# Altium integrated library Infineon_Microcontroller.IntLib: 721 symbols (part 63 of 66)
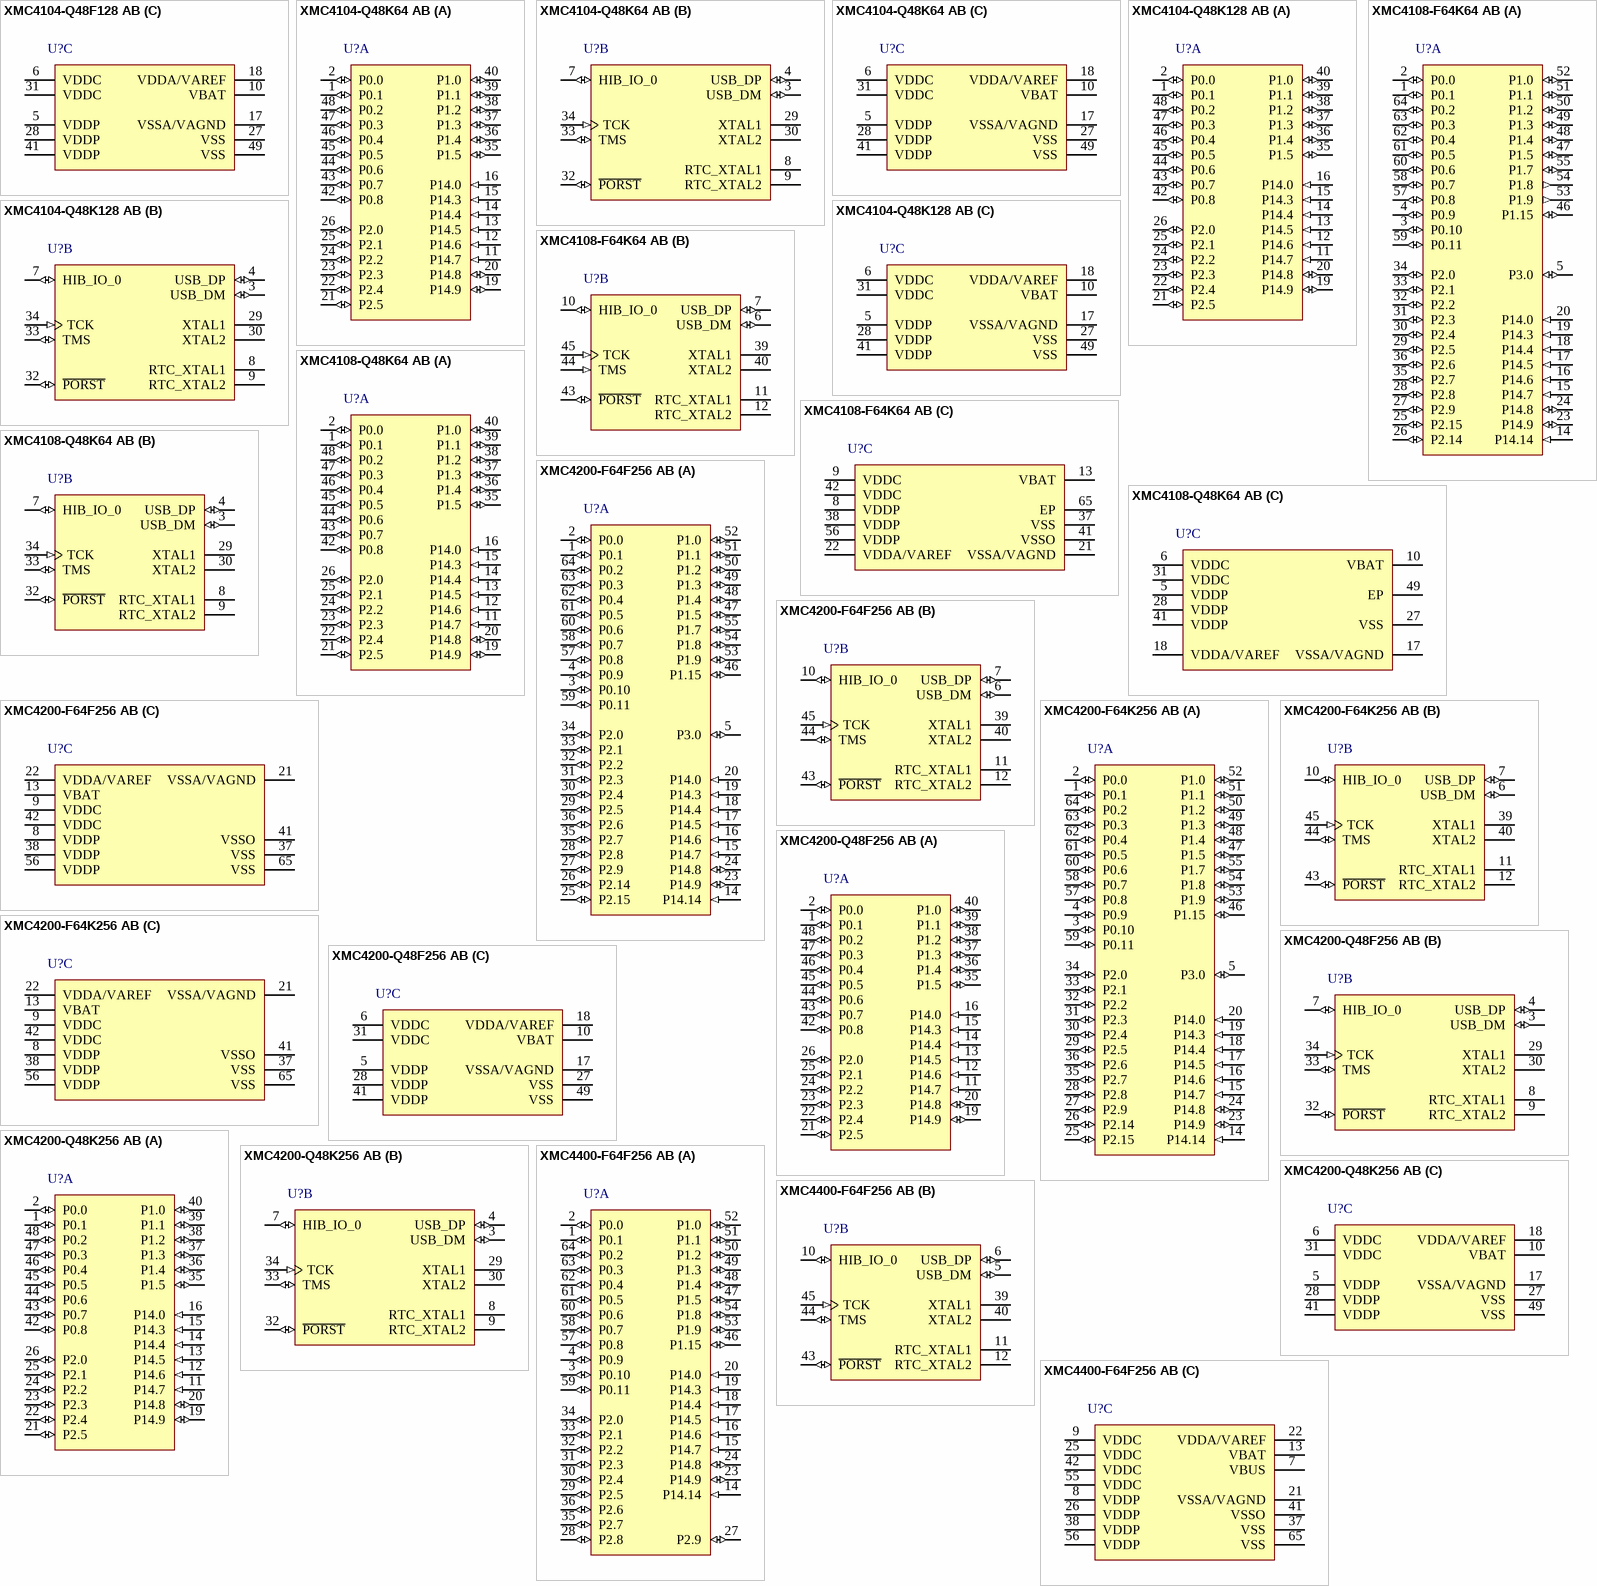
[diagram p180: symbols XMC4104-Q48F128 AB to XMC4400-F64F256 AB]

## XMC4200-F64K256 AB
designator U?
80 MHz XMC4200 MCU with 256 KByte Program Memory, 40 KByte SRAM, 3.3 V, -40 to 125 degC, PG-LQFP-64, Green; Manufacturer: Infineon; PartNumber: XMC4200-F64K256 AB; A / D input lines (incl. FADC): 9; Digital I/O Lines: 35; Green: TRUE; Type of Memory: Flash; Type of Serial I/O Interfaces: 4xSPI, Dual SPI, Quad SPI, UART, LIN, IIC, IIS; DatasheetVersion: Rev. 0.6; PackageVersion: Rev. 13, 11/2012; PackageReference: PG-LQFP-64-19; PackageDescription: 64-Pin Plastic (Green) Low Profile Quad Flat Package, 10 x 10 mm Body, 0.5 mm Pitch; Supplier 1: Newark; Supplier Part Number 1: 52X6570; Supplier 2: Farnell; Supplier Part Number 2: 2418736; Group: XMC4200; Halogen-free: TRUE; Program Memory: 256 KByte; RoHS: TRUE; SRAM (incl. Cache): 40 KByte; Mounting Technology: Surface Mount; ComponentLink1Description: Manufacturer URL; ComponentLink1URL: http://www.infineon.com/; ComponentLink2Description: Datasheet; ComponentLink2URL: http://www.infineon.com/dgdl/xmc4100_xmc4200_ds_v0.6_2012_11.pdf?folderId=db3a30433580b3710135a47f3eb76c98&fileId=db3a30433afc7e3e013b3cf9b2816573&location=en.Products.Microcontrollers.32-bit_Industrial_Microcontrollers_based_on_ARM__Cortex_-M.32-bit_XMC4000_Industrial_Microcontrollers_ARM__Cortex_-M4.DATASHEET.xmc4100_xmc4200_ds_v0.6_2012_11.pdf; ComponentLink3Description: Package Specification; ComponentLink3URL: http://www.infineon.com/dgdl/xmc4100_xmc4200_ds_v0.6_2012_11.pdf?folderId=db3a30433580b3710135a47f3eb76c98&fileId=db3a30433afc7e3e013b3cf9b2816573&location=en.Products.Microcontrollers.32-bit_Industrial_Microcontrollers_based_on_ARM__Cortex_-M.32-bit_XMC4000_Industrial_Microcontrollers_ARM__Cortex_-M4.DATASHEET.xmc4100_xmc4200_ds_v0.6_2012_11.pdf
footprint INF-PG-LQFP-64-19-5800X5800TP_N (QFP, 64-Leads, Body 10x10mm, Pitch 0.5mm, Thermal Pad 5.8x5.8mm, IPC Medium Density)
footprint INF-PG-LQFP-64-19-5800X5800TP_L (QFP, 64-Leads, Body 10x10mm, Pitch 0.5mm, Thermal Pad 5.8x5.8mm, IPC High Density)
footprint INF-PG-LQFP-64-19-5800X5800TP_M (QFP, 64-Leads, Body 10x10mm, Pitch 0.5mm, Thermal Pad 5.8x5.8mm, IPC Low Density)
part A pins: 1 P0.1 (io), 2 P0.0 (io), 3 P0.10 (io), 4 P0.9 (io), 5 P3.0 (io), 14 P14.14 (in), 15 P14.7 (in), 16 P14.6 (in), 17 P14.5 (in), 18 P14.4 (in), 19 P14.3 (in), 20 P14.0 (in), 23 P14.9 (io), 24 P14.8 (io), 25 P2.15 (io), 26 P2.14 (io), 27 P2.9 (io), 28 P2.8 (io), 29 P2.5 (io), 30 P2.4 (io), 31 P2.3 (io), 32 P2.2 (io), 33 P2.1 (io), 34 P2.0 (io), 35 P2.7 (io), 36 P2.6 (io), 46 P1.15 (io), 47 P1.5 (io), 48 P1.4 (io), 49 P1.3 (io), 50 P1.2 (io), 51 P1.1 (io), 52 P1.0 (io), 53 P1.9 (io), 54 P1.8 (io), 55 P1.7 (io), 57 P0.8 (io), 58 P0.7 (io), 59 P0.11 (io), 60 P0.6 (io), 61 P0.5 (io), 62 P0.4 (io), 63 P0.3 (io), 64 P0.2 (io)
part B pins: 6 USB_DM (io), 7 USB_DP (io), 10 HIB_IO_0 (io), 11 RTC_XTAL1, 12 RTC_XTAL2, 39 XTAL1, 40 XTAL2, 43 ~{PORST} (io) "Strong pull-down controlled by EVR. Weak pull-up active while strong pull-down is not active.", 44 TMS (io), 45 TCK (in)
part C pins: 8 VDDP (power), 9 VDDC (power), 13 VBAT (power) "When VDDP is supplied VBAT has to be supplied as well.", 21 VSSA/VAGND (power) "Shared analog supply and reference ground pin.", 22 VDDA/VAREF (power) "Shared analog supply and reference voltage pin.", 37 VSS (power), 38 VDDP (power), 41 VSSO (power), 42 VDDC (power), 56 VDDP (power), 65 VSS (power) "Exposed Die Pad. The exposed die pad is connected internally to VSS. For proper operation, it is mandatory to connect the exposed pad to the board ground. For thermal aspects, please refer to the Data Sheet. Board layout (See Datasheet)"

## XMC4200-Q48F256 AB
designator U?
80 MHz XMC4200 MCU with 256 KByte Program Memory, 40 KByte SRAM, 3.3 V, -40 to 85 degC, PG-VQFN-48, Green; Manufacturer: Infineon; PartNumber: XMC4200-Q48F256 AB; A / D input lines (incl. FADC): 8; Digital I/O Lines: 21; Green: TRUE; Type of Memory: Flash; Type of Serial I/O Interfaces: 4xSPI, Dual SPI, Quad SPI, UART, LIN, IIC, IIS; DatasheetVersion: Rev. 0.6; PackageVersion: Nov-12; PackageReference: PG-VQFN-48-53; PackageDescription: 48-Pin Plastic (Green) Very Thin Profile Quad Flat Non Leaded Package, 7 x 7 mm Body, 0.5 mm Pitch; Group: XMC4200; Halogen-free: TRUE; Program Memory: 256 KByte; RoHS: TRUE; SRAM (incl. Cache): 40 KByte; Mounting Technology: Surface Mount; ComponentLink1Description: Manufacturer URL; ComponentLink1URL: http://www.infineon.com/; ComponentLink2Description: Datasheet; ComponentLink2URL: http://www.infineon.com/dgdl/xmc4100_xmc4200_ds_v0.6_2012_11.pdf?folderId=db3a30433580b3710135a47f3eb76c98&fileId=db3a30433afc7e3e013b3cf9b2816573&location=en.Products.Microcontrollers.32-bit_Industrial_Microcontrollers_based_on_ARM__Cortex_-M.32-bit_XMC4000_Industrial_Microcontrollers_ARM__Cortex_-M4.DATASHEET.xmc4100_xmc4200_ds_v0.6_2012_11.pdf; ComponentLink3Description: Package Specification; ComponentLink3URL: http://www.infineon.com/dgdl/PG-VQFN-48-15%2C-19%2C-20%2C-22%2C-24%2C-48%2C-51%2C-52%2C-53%2C-54%2C-55%2C-56%2C-57-Package_Overview.pdf?folderId=db3a304319c6f18c0119e80a8f2559bf&fileId=db3a304319c6f18c011a0b8b18c33200
footprint INF-PG-VQFN-48-53-5200X5200TP_N (QFN, 48-Leads, Body 7x7mm, Pitch 0.5mm, Thermal Pad 5.2x5.2mm, IPC Medium Density)
footprint INF-PG-VQFN-48-53-5200X5200TP_L (QFN, 48-Leads, Body 7x7mm, Pitch 0.5mm, Thermal Pad 5.2x5.2mm, IPC High Density)
footprint INF-PG-VQFN-48-53-5200X5200TP_M (QFN, 48-Leads, Body 7x7mm, Pitch 0.5mm, Thermal Pad 5.2x5.2mm, IPC Low Density)
part A pins: 1 P0.1 (io), 2 P0.0 (io), 11 P14.7 (in), 12 P14.6 (in), 13 P14.5 (in), 14 P14.4 (in), 15 P14.3 (in), 16 P14.0 (in), 19 P14.9 (io), 20 P14.8 (io), 21 P2.5 (io), 22 P2.4 (io), 23 P2.3 (io), 24 P2.2 (io), 25 P2.1 (io), 26 P2.0 (io), 35 P1.5 (io), 36 P1.4 (io), 37 P1.3 (io), 38 P1.2 (io), 39 P1.1 (io), 40 P1.0 (io), 42 P0.8 (io), 43 P0.7 (io), 44 P0.6 (io), 45 P0.5 (io), 46 P0.4 (io), 47 P0.3 (io), 48 P0.2 (io)
part B pins: 3 USB_DM (io), 4 USB_DP (io), 7 HIB_IO_0 (io), 8 RTC_XTAL1, 9 RTC_XTAL2, 29 XTAL1, 30 XTAL2, 32 ~{PORST} (io) "Strong pull-down controlled by EVR. Weak pull-up active while strong pull-down is not active.", 33 TMS (io), 34 TCK (in)
part C pins: 5 VDDP (power), 6 VDDC (power), 10 VBAT (power) "When VDDP is supplied VBAT has to be supplied as well.", 17 VSSA/VAGND (power) "Shared analog supply and reference ground pin.", 18 VDDA/VAREF (power) "Shared analog supply and reference voltage pin.", 27 VSS (power), 28 VDDP (power), 31 VDDC (power), 41 VDDP (power), 49 VSS (power) "Exposed Die Pad. The exposed die pad is connected internally to VSS. For proper operation, it is mandatory to connect the exposed pad to the board ground. For thermal aspects, please refer to the Data Sheet. Board layout (See Datasheet)"

## XMC4200-Q48K256 AB
designator U?
80 MHz XMC4200 MCU with 256 KByte Program Memory, 40 KByte SRAM, 3.3 V, -40 to 125 degC, PG-VQFN-48, Green; Manufacturer: Infineon; PartNumber: XMC4200-Q48K256 AB; A / D input lines (incl. FADC): 8; Digital I/O Lines: 21; Green: TRUE; Type of Memory: Flash; Type of Serial I/O Interfaces: 4xSPI, Dual SPI, Quad SPI, UART, LIN, IIC, IIS; DatasheetVersion: Rev. 0.6; PackageVersion: Nov-12; PackageReference: PG-VQFN-48-53; PackageDescription: 48-Pin Plastic (Green) Very Thin Profile Quad Flat Non Leaded Package, 7 x 7 mm Body, 0.5 mm Pitch; Supplier 1: Farnell; Supplier Part Number 1: 2418732; Group: XMC4200; Halogen-free: TRUE; Program Memory: 256 KByte; RoHS: TRUE; SRAM (incl. Cache): 40 KByte; Mounting Technology: Surface Mount; ComponentLink1Description: Manufacturer URL; ComponentLink1URL: http://www.infineon.com/; ComponentLink2Description: Datasheet; ComponentLink2URL: http://www.infineon.com/dgdl/xmc4100_xmc4200_ds_v0.6_2012_11.pdf?folderId=db3a30433580b3710135a47f3eb76c98&fileId=db3a30433afc7e3e013b3cf9b2816573&location=en.Products.Microcontrollers.32-bit_Industrial_Microcontrollers_based_on_ARM__Cortex_-M.32-bit_XMC4000_Industrial_Microcontrollers_ARM__Cortex_-M4.DATASHEET.xmc4100_xmc4200_ds_v0.6_2012_11.pdf; ComponentLink3Description: Package Specification; ComponentLink3URL: http://www.infineon.com/dgdl/PG-VQFN-48-15%2C-19%2C-20%2C-22%2C-24%2C-48%2C-51%2C-52%2C-53%2C-54%2C-55%2C-56%2C-57-Package_Overview.pdf?folderId=db3a304319c6f18c0119e80a8f2559bf&fileId=db3a304319c6f18c011a0b8b18c33200
footprint INF-PG-VQFN-48-53-5200X5200TP_N (QFN, 48-Leads, Body 7x7mm, Pitch 0.5mm, Thermal Pad 5.2x5.2mm, IPC Medium Density)
footprint INF-PG-VQFN-48-53-5200X5200TP_L (QFN, 48-Leads, Body 7x7mm, Pitch 0.5mm, Thermal Pad 5.2x5.2mm, IPC High Density)
footprint INF-PG-VQFN-48-53-5200X5200TP_M (QFN, 48-Leads, Body 7x7mm, Pitch 0.5mm, Thermal Pad 5.2x5.2mm, IPC Low Density)
part A pins: 1 P0.1 (io), 2 P0.0 (io), 11 P14.7 (in), 12 P14.6 (in), 13 P14.5 (in), 14 P14.4 (in), 15 P14.3 (in), 16 P14.0 (in), 19 P14.9 (io), 20 P14.8 (io), 21 P2.5 (io), 22 P2.4 (io), 23 P2.3 (io), 24 P2.2 (io), 25 P2.1 (io), 26 P2.0 (io), 35 P1.5 (io), 36 P1.4 (io), 37 P1.3 (io), 38 P1.2 (io), 39 P1.1 (io), 40 P1.0 (io), 42 P0.8 (io), 43 P0.7 (io), 44 P0.6 (io), 45 P0.5 (io), 46 P0.4 (io), 47 P0.3 (io), 48 P0.2 (io)
part B pins: 3 USB_DM (io), 4 USB_DP (io), 7 HIB_IO_0 (io), 8 RTC_XTAL1, 9 RTC_XTAL2, 29 XTAL1, 30 XTAL2, 32 ~{PORST} (io) "Strong pull-down controlled by EVR. Weak pull-up active while strong pull-down is not active.", 33 TMS (io), 34 TCK (in)
part C pins: 5 VDDP (power), 6 VDDC (power), 10 VBAT (power) "When VDDP is supplied VBAT has to be supplied as well.", 17 VSSA/VAGND (power) "Shared analog supply and reference ground pin.", 18 VDDA/VAREF (power) "Shared analog supply and reference voltage pin.", 27 VSS (power), 28 VDDP (power), 31 VDDC (power), 41 VDDP (power), 49 VSS (power) "Exposed Die Pad. The exposed die pad is connected internally to VSS. For proper operation, it is mandatory to connect the exposed pad to the board ground. For thermal aspects, please refer to the Data Sheet. Board layout (See Datasheet)"

## XMC4400-F64F256 AB
designator U?
120 MHz XMC4400 MCU with 256 KByte Program Memory, 80 KByte SRAM, 3.3 V, -40 to 85 degC, PG-LQFP-64, Green; Manufacturer: Infineon; PartNumber: XMC4400-F64F256 AB; A / D input lines (incl. FADC): 9; Digital I/O Lines: 31; Green: TRUE; Type of Memory: Flash; Type of Serial I/O Interfaces: 4xSPI, Dual SPI, Quad SPI, UART, LIN, IIC, IIS; DatasheetVersion: Rev. 0.6; PackageVersion: Rev. 13, 11/2012; PackageReference: PG-LQFP-64-19; PackageDescription: 64-Pin Plastic (Green) Low Profile Quad Flat Package, 10 x 10 mm Body, 0.5 mm Pitch; Group: XMC4400; Halogen-free: TRUE; Program Memory: 256 KByte; RoHS: TRUE; SRAM (incl. Cache): 80 KByte; Mounting Technology: Surface Mount; ComponentLink1Description: Manufacturer URL; ComponentLink1URL: http://www.infineon.com/; ComponentLink2Description: Datasheet; ComponentLink2URL: http://www.infineon.com/dgdl/xmc4400_ds_v0.6_2012_11_.pdf?folderId=db3a30433580b3710135a47f3eb76c98&fileId=db3a30433afc7e3e013b3cfb455565a3&location=en.Products.Microcontrollers.32-bit_Industrial_Microcontrollers_based_on_ARM__Cortex_-M.32-bit_XMC4000_Industrial_Microcontrollers_ARM__Cortex_-M4.DATASHEET.xmc4400_ds_v0.6_2012_11_.pdf; ComponentLink3Description: Package Specification; ComponentLink3URL: http://www.infineon.com/dgdl/xmc4100_xmc4200_ds_v0.6_2012_11.pdf?folderId=db3a30433580b3710135a47f3eb76c98&fileId=db3a30433afc7e3e013b3cf9b2816573&location=en.Products.Microcontrollers.32-bit_Industrial_Microcontrollers_based_on_ARM__Cortex_-M.32-bit_XMC4000_Industrial_Microcontrollers_ARM__Cortex_-M4.DATASHEET.xmc4100_xmc4200_ds_v0.6_2012_11.pdf
footprint INF-PG-LQFP-64-19-5800X5800TP_N (QFP, 64-Leads, Body 10x10mm, Pitch 0.5mm, Thermal Pad 5.8x5.8mm, IPC Medium Density)
footprint INF-PG-LQFP-64-19-5800X5800TP_L (QFP, 64-Leads, Body 10x10mm, Pitch 0.5mm, Thermal Pad 5.8x5.8mm, IPC High Density)
footprint INF-PG-LQFP-64-19-5800X5800TP_M (QFP, 64-Leads, Body 10x10mm, Pitch 0.5mm, Thermal Pad 5.8x5.8mm, IPC Low Density)
part A pins: 1 P0.1 (io), 2 P0.0 (io), 3 P0.10 (io), 4 P0.9 (io), 14 P14.14 (in), 15 P14.7 (in), 16 P14.6 (in), 17 P14.5 (in), 18 P14.4 (in), 19 P14.3 (in), 20 P14.0 (in), 23 P14.9 (io), 24 P14.8 (io), 27 P2.9 (io), 28 P2.8 (io), 29 P2.5 (io), 30 P2.4 (io), 31 P2.3 (io), 32 P2.2 (io), 33 P2.1 (io), 34 P2.0 (io), 35 P2.7 (io), 36 P2.6 (io), 46 P1.15 (io), 47 P1.5 (io), 48 P1.4 (io), 49 P1.3 (io), 50 P1.2 (io), 51 P1.1 (io), 52 P1.0 (io), 53 P1.9 (io), 54 P1.8 (io), 57 P0.8 (io), 58 P0.7 (io), 59 P0.11 (io), 60 P0.6 (io), 61 P0.5 (io), 62 P0.4 (io), 63 P0.3 (io), 64 P0.2 (io)
part B pins: 5 USB_DM (io), 6 USB_DP (io), 10 HIB_IO_0 (io), 11 RTC_XTAL1, 12 RTC_XTAL2, 39 XTAL1, 40 XTAL2, 43 ~{PORST} (io) "Strong pull-down controlled by EVR. Weak pull-up active while strong pull-down is not active.", 44 TMS (io), 45 TCK (in)
part C pins: 7 VBUS (power), 8 VDDP (power), 9 VDDC (power), 13 VBAT (power) "When VDDP is supplied VBAT has to be supplied as well.", 21 VSSA/VAGND (power), 22 VDDA/VAREF (power), 25 VDDC (power), 26 VDDP (power), 37 VSS (power), 38 VDDP (power), 41 VSSO (power), 42 VDDC (power), 55 VDDC (power), 56 VDDP (power), 65 VSS (power) "Exposed Die Pad The exposed die pad is connected internally to VSS. For proper operation, it is mandatory to connect the exposed pad to the board ground. For thermal aspects, please refer to the Data Sheet. Board layout (See Datasheet)"

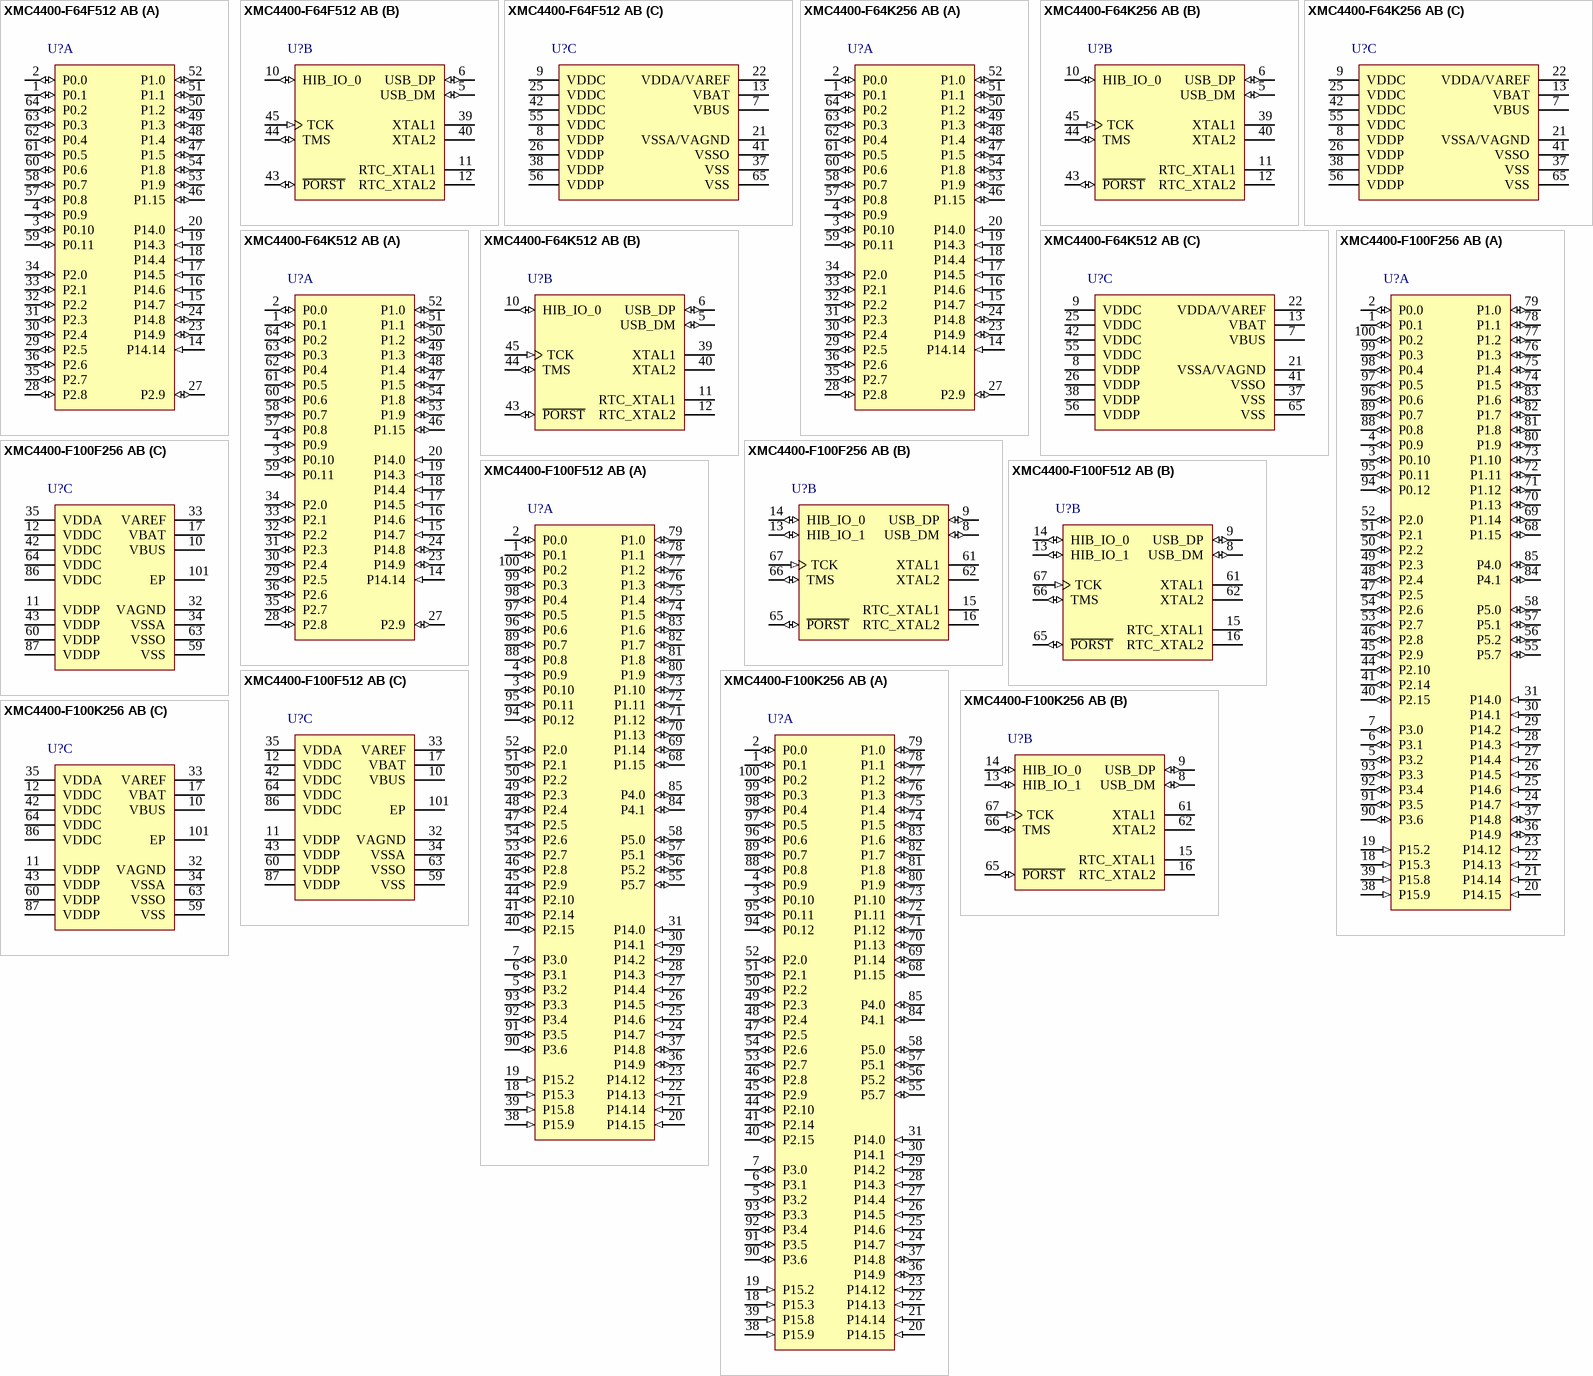
[diagram p111: symbols XMC4400-F64F512 AB to XMC4400-F100K256 AB]

## XMC4400-F64F512 AB
designator U?
120 MHz XMC4400 MCU with 512 KByte Program Memory, 80 KByte SRAM, 3.3 V, -40 to 85 degC, PG-LQFP-64, Green; Manufacturer: Infineon; PartNumber: XMC4400-F64F512 AB; A / D input lines (incl. FADC): 9; Digital I/O Lines: 31; Green: TRUE; Type of Memory: Flash; Type of Serial I/O Interfaces: 4xSPI, Dual SPI, Quad SPI, UART, LIN, IIC, IIS; DatasheetVersion: Rev. 0.6; PackageVersion: Rev. 13, 11/2012; PackageReference: PG-LQFP-64-19; PackageDescription: 64-Pin Plastic (Green) Low Profile Quad Flat Package, 10 x 10 mm Body, 0.5 mm Pitch; Supplier 1: Newark; Supplier Part Number 1: 52X6573; Supplier 2: Farnell; Supplier Part Number 2: 2418734; Group: XMC4400; Halogen-free: TRUE; Program Memory: 512 KByte; RoHS: TRUE; SRAM (incl. Cache): 80 KByte; Mounting Technology: Surface Mount; ComponentLink1Description: Manufacturer URL; ComponentLink1URL: http://www.infineon.com/; ComponentLink2Description: Datasheet; ComponentLink2URL: http://www.infineon.com/dgdl/xmc4400_ds_v0.6_2012_11_.pdf?folderId=db3a30433580b3710135a47f3eb76c98&fileId=db3a30433afc7e3e013b3cfb455565a3&location=en.Products.Microcontrollers.32-bit_Industrial_Microcontrollers_based_on_ARM__Cortex_-M.32-bit_XMC4000_Industrial_Microcontrollers_ARM__Cortex_-M4.DATASHEET.xmc4400_ds_v0.6_2012_11_.pdf; ComponentLink3Description: Package Specification; ComponentLink3URL: http://www.infineon.com/dgdl/xmc4100_xmc4200_ds_v0.6_2012_11.pdf?folderId=db3a30433580b3710135a47f3eb76c98&fileId=db3a30433afc7e3e013b3cf9b2816573&location=en.Products.Microcontrollers.32-bit_Industrial_Microcontrollers_based_on_ARM__Cortex_-M.32-bit_XMC4000_Industrial_Microcontrollers_ARM__Cortex_-M4.DATASHEET.xmc4100_xmc4200_ds_v0.6_2012_11.pdf
footprint INF-PG-LQFP-64-19-5800X5800TP_N (QFP, 64-Leads, Body 10x10mm, Pitch 0.5mm, Thermal Pad 5.8x5.8mm, IPC Medium Density)
footprint INF-PG-LQFP-64-19-5800X5800TP_L (QFP, 64-Leads, Body 10x10mm, Pitch 0.5mm, Thermal Pad 5.8x5.8mm, IPC High Density)
footprint INF-PG-LQFP-64-19-5800X5800TP_M (QFP, 64-Leads, Body 10x10mm, Pitch 0.5mm, Thermal Pad 5.8x5.8mm, IPC Low Density)
part A pins: 1 P0.1 (io), 2 P0.0 (io), 3 P0.10 (io), 4 P0.9 (io), 14 P14.14 (in), 15 P14.7 (in), 16 P14.6 (in), 17 P14.5 (in), 18 P14.4 (in), 19 P14.3 (in), 20 P14.0 (in), 23 P14.9 (io), 24 P14.8 (io), 27 P2.9 (io), 28 P2.8 (io), 29 P2.5 (io), 30 P2.4 (io), 31 P2.3 (io), 32 P2.2 (io), 33 P2.1 (io), 34 P2.0 (io), 35 P2.7 (io), 36 P2.6 (io), 46 P1.15 (io), 47 P1.5 (io), 48 P1.4 (io), 49 P1.3 (io), 50 P1.2 (io), 51 P1.1 (io), 52 P1.0 (io), 53 P1.9 (io), 54 P1.8 (io), 57 P0.8 (io), 58 P0.7 (io), 59 P0.11 (io), 60 P0.6 (io), 61 P0.5 (io), 62 P0.4 (io), 63 P0.3 (io), 64 P0.2 (io)
part B pins: 5 USB_DM (io), 6 USB_DP (io), 10 HIB_IO_0 (io), 11 RTC_XTAL1, 12 RTC_XTAL2, 39 XTAL1, 40 XTAL2, 43 ~{PORST} (io) "Strong pull-down controlled by EVR. Weak pull-up active while strong pull-down is not active.", 44 TMS (io), 45 TCK (in)
part C pins: 7 VBUS (power), 8 VDDP (power), 9 VDDC (power), 13 VBAT (power) "When VDDP is supplied VBAT has to be supplied as well.", 21 VSSA/VAGND (power), 22 VDDA/VAREF (power), 25 VDDC (power), 26 VDDP (power), 37 VSS (power), 38 VDDP (power), 41 VSSO (power), 42 VDDC (power), 55 VDDC (power), 56 VDDP (power), 65 VSS (power) "Exposed Die Pad The exposed die pad is connected internally to VSS. For proper operation, it is mandatory to connect the exposed pad to the board ground. For thermal aspects, please refer to the Data Sheet. Board layout (See Datasheet)"

## XMC4400-F64K256 AB
designator U?
120 MHz XMC4400 MCU with 256 KByte Program Memory, 80 KByte SRAM, 3.3 V, -40 to 125 degC, PG-LQFP-64, Green; Manufacturer: Infineon; PartNumber: XMC4400-F64K256 AB; A / D input lines (incl. FADC): 9; Digital I/O Lines: 31; Green: TRUE; Type of Memory: Flash; Type of Serial I/O Interfaces: 4xSPI, Dual SPI, Quad SPI, UART, LIN, IIC, IIS; DatasheetVersion: Rev. 0.6; PackageVersion: Rev. 13, 11/2012; PackageReference: PG-LQFP-64-19; PackageDescription: 64-Pin Plastic (Green) Low Profile Quad Flat Package, 10 x 10 mm Body, 0.5 mm Pitch; Group: XMC4400; Halogen-free: TRUE; Program Memory: 256 KByte; RoHS: TRUE; SRAM (incl. Cache): 80 KByte; Mounting Technology: Surface Mount; ComponentLink1Description: Manufacturer URL; ComponentLink1URL: http://www.infineon.com/; ComponentLink2Description: Datasheet; ComponentLink2URL: http://www.infineon.com/dgdl/xmc4400_ds_v0.6_2012_11_.pdf?folderId=db3a30433580b3710135a47f3eb76c98&fileId=db3a30433afc7e3e013b3cfb455565a3&location=en.Products.Microcontrollers.32-bit_Industrial_Microcontrollers_based_on_ARM__Cortex_-M.32-bit_XMC4000_Industrial_Microcontrollers_ARM__Cortex_-M4.DATASHEET.xmc4400_ds_v0.6_2012_11_.pdf; ComponentLink3Description: Package Specification; ComponentLink3URL: http://www.infineon.com/dgdl/xmc4100_xmc4200_ds_v0.6_2012_11.pdf?folderId=db3a30433580b3710135a47f3eb76c98&fileId=db3a30433afc7e3e013b3cf9b2816573&location=en.Products.Microcontrollers.32-bit_Industrial_Microcontrollers_based_on_ARM__Cortex_-M.32-bit_XMC4000_Industrial_Microcontrollers_ARM__Cortex_-M4.DATASHEET.xmc4100_xmc4200_ds_v0.6_2012_11.pdf
footprint INF-PG-LQFP-64-19-5800X5800TP_N (QFP, 64-Leads, Body 10x10mm, Pitch 0.5mm, Thermal Pad 5.8x5.8mm, IPC Medium Density)
footprint INF-PG-LQFP-64-19-5800X5800TP_L (QFP, 64-Leads, Body 10x10mm, Pitch 0.5mm, Thermal Pad 5.8x5.8mm, IPC High Density)
footprint INF-PG-LQFP-64-19-5800X5800TP_M (QFP, 64-Leads, Body 10x10mm, Pitch 0.5mm, Thermal Pad 5.8x5.8mm, IPC Low Density)
part A pins: 1 P0.1 (io), 2 P0.0 (io), 3 P0.10 (io), 4 P0.9 (io), 14 P14.14 (in), 15 P14.7 (in), 16 P14.6 (in), 17 P14.5 (in), 18 P14.4 (in), 19 P14.3 (in), 20 P14.0 (in), 23 P14.9 (io), 24 P14.8 (io), 27 P2.9 (io), 28 P2.8 (io), 29 P2.5 (io), 30 P2.4 (io), 31 P2.3 (io), 32 P2.2 (io), 33 P2.1 (io), 34 P2.0 (io), 35 P2.7 (io), 36 P2.6 (io), 46 P1.15 (io), 47 P1.5 (io), 48 P1.4 (io), 49 P1.3 (io), 50 P1.2 (io), 51 P1.1 (io), 52 P1.0 (io), 53 P1.9 (io), 54 P1.8 (io), 57 P0.8 (io), 58 P0.7 (io), 59 P0.11 (io), 60 P0.6 (io), 61 P0.5 (io), 62 P0.4 (io), 63 P0.3 (io), 64 P0.2 (io)
part B pins: 5 USB_DM (io), 6 USB_DP (io), 10 HIB_IO_0 (io), 11 RTC_XTAL1, 12 RTC_XTAL2, 39 XTAL1, 40 XTAL2, 43 ~{PORST} (io) "Strong pull-down controlled by EVR. Weak pull-up active while strong pull-down is not active.", 44 TMS (io), 45 TCK (in)
part C pins: 7 VBUS (power), 8 VDDP (power), 9 VDDC (power), 13 VBAT (power) "When VDDP is supplied VBAT has to be supplied as well.", 21 VSSA/VAGND (power), 22 VDDA/VAREF (power), 25 VDDC (power), 26 VDDP (power), 37 VSS (power), 38 VDDP (power), 41 VSSO (power), 42 VDDC (power), 55 VDDC (power), 56 VDDP (power), 65 VSS (power) "Exposed Die Pad The exposed die pad is connected internally to VSS. For proper operation, it is mandatory to connect the exposed pad to the board ground. For thermal aspects, please refer to the Data Sheet. Board layout (See Datasheet)"

## XMC4400-F64K512 AB
designator U?
120 MHz XMC4400 MCU with 512 KByte Program Memory, 80 KByte SRAM, 3.3 V, -40 to 125 degC, PG-LQFP-64, Green; Manufacturer: Infineon; PartNumber: XMC4400-F64K512 AB; A / D input lines (incl. FADC): 18; Digital I/O Lines: 31; Green: TRUE; Type of Memory: Flash; Type of Serial I/O Interfaces: 4xSPI, Dual SPI, Quad SPI, UART, LIN, IIC, IIS; DatasheetVersion: Rev. 0.6; PackageVersion: Rev. 13, 11/2012; PackageReference: PG-LQFP-64-19; PackageDescription: 64-Pin Plastic (Green) Low Profile Quad Flat Package, 10 x 10 mm Body, 0.5 mm Pitch; Group: XMC4400; Halogen-free: TRUE; Program Memory: 512 KByte; RoHS: TRUE; SRAM (incl. Cache): 80 KByte; Mounting Technology: Surface Mount; ComponentLink1Description: Manufacturer URL; ComponentLink1URL: http://www.infineon.com/; ComponentLink2Description: Datasheet; ComponentLink2URL: http://www.infineon.com/dgdl/xmc4400_ds_v0.6_2012_11_.pdf?folderId=db3a30433580b3710135a47f3eb76c98&fileId=db3a30433afc7e3e013b3cfb455565a3&location=en.Products.Microcontrollers.32-bit_Industrial_Microcontrollers_based_on_ARM__Cortex_-M.32-bit_XMC4000_Industrial_Microcontrollers_ARM__Cortex_-M4.DATASHEET.xmc4400_ds_v0.6_2012_11_.pdf; ComponentLink3Description: Package Specification; ComponentLink3URL: http://www.infineon.com/dgdl/xmc4100_xmc4200_ds_v0.6_2012_11.pdf?folderId=db3a30433580b3710135a47f3eb76c98&fileId=db3a30433afc7e3e013b3cf9b2816573&location=en.Products.Microcontrollers.32-bit_Industrial_Microcontrollers_based_on_ARM__Cortex_-M.32-bit_XMC4000_Industrial_Microcontrollers_ARM__Cortex_-M4.DATASHEET.xmc4100_xmc4200_ds_v0.6_2012_11.pdf
footprint INF-PG-LQFP-64-19-5800X5800TP_N (QFP, 64-Leads, Body 10x10mm, Pitch 0.5mm, Thermal Pad 5.8x5.8mm, IPC Medium Density)
footprint INF-PG-LQFP-64-19-5800X5800TP_L (QFP, 64-Leads, Body 10x10mm, Pitch 0.5mm, Thermal Pad 5.8x5.8mm, IPC High Density)
footprint INF-PG-LQFP-64-19-5800X5800TP_M (QFP, 64-Leads, Body 10x10mm, Pitch 0.5mm, Thermal Pad 5.8x5.8mm, IPC Low Density)
part A pins: 1 P0.1 (io), 2 P0.0 (io), 3 P0.10 (io), 4 P0.9 (io), 14 P14.14 (in), 15 P14.7 (in), 16 P14.6 (in), 17 P14.5 (in), 18 P14.4 (in), 19 P14.3 (in), 20 P14.0 (in), 23 P14.9 (io), 24 P14.8 (io), 27 P2.9 (io), 28 P2.8 (io), 29 P2.5 (io), 30 P2.4 (io), 31 P2.3 (io), 32 P2.2 (io), 33 P2.1 (io), 34 P2.0 (io), 35 P2.7 (io), 36 P2.6 (io), 46 P1.15 (io), 47 P1.5 (io), 48 P1.4 (io), 49 P1.3 (io), 50 P1.2 (io), 51 P1.1 (io), 52 P1.0 (io), 53 P1.9 (io), 54 P1.8 (io), 57 P0.8 (io), 58 P0.7 (io), 59 P0.11 (io), 60 P0.6 (io), 61 P0.5 (io), 62 P0.4 (io), 63 P0.3 (io), 64 P0.2 (io)
part B pins: 5 USB_DM (io), 6 USB_DP (io), 10 HIB_IO_0 (io), 11 RTC_XTAL1, 12 RTC_XTAL2, 39 XTAL1, 40 XTAL2, 43 ~{PORST} (io) "Strong pull-down controlled by EVR. Weak pull-up active while strong pull-down is not active.", 44 TMS (io), 45 TCK (in)
part C pins: 7 VBUS (power), 8 VDDP (power), 9 VDDC (power), 13 VBAT (power) "When VDDP is supplied VBAT has to be supplied as well.", 21 VSSA/VAGND (power), 22 VDDA/VAREF (power), 25 VDDC (power), 26 VDDP (power), 37 VSS (power), 38 VDDP (power), 41 VSSO (power), 42 VDDC (power), 55 VDDC (power), 56 VDDP (power), 65 VSS (power) "Exposed Die Pad The exposed die pad is connected internally to VSS. For proper operation, it is mandatory to connect the exposed pad to the board ground. For thermal aspects, please refer to the Data Sheet. Board layout (See Datasheet)"

## XMC4400-F100F256 AB
designator U?
120 MHz XMC4400 MCU with 256 KByte Program Memory, 80 KByte SRAM, 3.3 V, -40 to 85 degC, PG-LQFP-100, Green; Manufacturer: Infineon; PartNumber: XMC4400-F100F256 AB; A / D input lines (incl. FADC): 18; Digital I/O Lines: 55; Green: TRUE; Type of Memory: Flash; Type of Serial I/O Interfaces: 4xSPI, Dual SPI, Quad SPI, UART, LIN, IIC, IIS; DatasheetVersion: Rev. 0.6; PackageVersion: Rev. 11, 11/2012; PackageReference: PG-LQFP-100-11; PackageDescription: 100-Pin Plastic (Green) Low Profile Quad Flat Package, 14 x 14 mm Body, 0.5 mm Pitch; Group: XMC4400; Halogen-free: TRUE; Program Memory: 256 KByte; RoHS: TRUE; SRAM (incl. Cache): 80 KByte; Mounting Technology: Surface Mount; ComponentLink1Description: Manufacturer URL; ComponentLink1URL: http://www.infineon.com/; ComponentLink2Description: Datasheet; ComponentLink2URL: http://www.infineon.com/dgdl/xmc4400_ds_v0.6_2012_11_.pdf?folderId=db3a30433580b3710135a47f3eb76c98&fileId=db3a30433afc7e3e013b3cfb455565a3&location=en.Products.Microcontrollers.32-bit_Industrial_Microcontrollers_based_on_ARM__Cortex_-M.32-bit_XMC4000_Industrial_Microcontrollers_ARM__Cortex_-M4.DATASHEET.xmc4400_ds_v0.6_2012_11_.pdf; ComponentLink3Description: Package Specification; ComponentLink3URL: http://www.infineon.com/dgdl/xmc4400_ds_v0.6_2012_11_.pdf?folderId=db3a30433580b3710135a47f3eb76c98&fileId=db3a30433afc7e3e013b3cfb455565a3&location=en.Products.Microcontrollers.32-bit_Industrial_Microcontrollers_based_on_ARM__Cortex_-M.32-bit_XMC4000_Industrial_Microcontrollers_ARM__Cortex_-M4.DATASHEET.xmc4400_ds_v0.6_2012_11_.pdf
footprint INF-PG-LQFP-100-11-7000X7000TP_N (QFP, 100-Leads, Body 14x14mm, Pitch 0.5mm, Thermal Pad 7x7mm, IPC Medium Density)
footprint INF-PG-LQFP-100-11-7000X7000TP_L (QFP, 100-Leads, Body 14x14mm, Pitch 0.5mm, Thermal Pad 7x7mm, IPC High Density)
footprint INF-PG-LQFP-100-11-7000X7000TP_M (QFP, 100-Leads, Body 14x14mm, Pitch 0.5mm, Thermal Pad 7x7mm, IPC Low Density)
part A pins: 1 P0.1 (io), 2 P0.0 (io), 3 P0.10 (io), 4 P0.9 (io), 5 P3.2 (io), 6 P3.1 (io), 7 P3.0 (io), 18 P15.3 (in), 19 P15.2 (in), 20 P14.15 (in), 21 P14.14 (in), 22 P14.13 (in), 23 P14.12 (in), 24 P14.7 (in), 25 P14.6 (in), 26 P14.5 (in), 27 P14.4 (in), 28 P14.3 (in), 29 P14.2 (in), 30 P14.1 (in), 31 P14.0 (in), 36 P14.9 (io), 37 P14.8 (io), 38 P15.9 (in), 39 P15.8 (in), 40 P2.15 (io), 41 P2.14 (io), 44 P2.10 (io), 45 P2.9 (io), 46 P2.8 (io), 47 P2.5 (io), 48 P2.4 (io), 49 P2.3 (io), 50 P2.2 (io), 51 P2.1 (io), 52 P2.0 (io), 53 P2.7 (io), 54 P2.6 (io), 55 P5.7 (io), 56 P5.2 (io), 57 P5.1 (io), 58 P5.0 (io), 68 P1.15 (io), 69 P1.14 (io), 70 P1.13 (io), 71 P1.12 (io), 72 P1.11 (io), 73 P1.10 (io), 74 P1.5 (io), 75 P1.4 (io), 76 P1.3 (io), 77 P1.2 (io), 78 P1.1 (io), 79 P1.0 (io), 80 P1.9 (io), 81 P1.8 (io), 82 P1.7 (io), 83 P1.6 (io), 84 P4.1 (io), 85 P4.0 (io), 88 P0.8 (io), 89 P0.7 (io), 90 P3.6 (io), 91 P3.5 (io), 92 P3.4 (io), 93 P3.3 (io), 94 P0.12 (io), 95 P0.11 (io), 96 P0.6 (io), 97 P0.5 (io), 98 P0.4 (io), 99 P0.3 (io), 100 P0.2 (io)
part B pins: 8 USB_DM (io), 9 USB_DP (io), 13 HIB_IO_1 (io), 14 HIB_IO_0 (io), 15 RTC_XTAL1, 16 RTC_XTAL2, 61 XTAL1, 62 XTAL2, 65 ~{PORST} (io) "Strong pull-down controlled by EVR. Weak pull-up active while strong pull-down is not active.", 66 TMS (io), 67 TCK (in)
part C pins: 10 VBUS (power), 11 VDDP (power), 12 VDDC (power), 17 VBAT (power) "When VDDP is supplied VBAT has to be supplied as well.", 32 VAGND (power), 33 VAREF (power), 34 VSSA (power), 35 VDDA (power), 42 VDDC (power), 43 VDDP (power), 59 VSS (power), 60 VDDP (power), 63 VSSO (power), 64 VDDC (power), 86 VDDC (power), 87 VDDP (power), 101 EP (power) "Exposed Die Pad"

## XMC4400-F100F512 AB
designator U?
120 MHz XMC4400 MCU with 512 KByte Program Memory, 80 KByte SRAM, 3.3 V, -40 to 85 degC, PG-LQFP-100, Green; Manufacturer: Infineon; PartNumber: XMC4400-F100F512 AB; A / D input lines (incl. FADC): 18; Digital I/O Lines: 55; Green: TRUE; Type of Memory: Flash; Type of Serial I/O Interfaces: 4xSPI, Dual SPI, Quad SPI, UART, LIN, IIC, IIS; DatasheetVersion: Rev. 0.6; PackageVersion: Rev. 11, 11/2012; PackageReference: PG-LQFP-100-11; PackageDescription: 100-Pin Plastic (Green) Low Profile Quad Flat Package, 14 x 14 mm Body, 0.5 mm Pitch; Group: XMC4400; Halogen-free: TRUE; Program Memory: 512 KByte; RoHS: TRUE; SRAM (incl. Cache): 80 KByte; Mounting Technology: Surface Mount; ComponentLink1Description: Manufacturer URL; ComponentLink1URL: http://www.infineon.com/; ComponentLink2Description: Datasheet; ComponentLink2URL: http://www.infineon.com/dgdl/xmc4400_ds_v0.6_2012_11_.pdf?folderId=db3a30433580b3710135a47f3eb76c98&fileId=db3a30433afc7e3e013b3cfb455565a3&location=en.Products.Microcontrollers.32-bit_Industrial_Microcontrollers_based_on_ARM__Cortex_-M.32-bit_XMC4000_Industrial_Microcontrollers_ARM__Cortex_-M4.DATASHEET.xmc4400_ds_v0.6_2012_11_.pdf; ComponentLink3Description: Package Specification; ComponentLink3URL: http://www.infineon.com/dgdl/xmc4400_ds_v0.6_2012_11_.pdf?folderId=db3a30433580b3710135a47f3eb76c98&fileId=db3a30433afc7e3e013b3cfb455565a3&location=en.Products.Microcontrollers.32-bit_Industrial_Microcontrollers_based_on_ARM__Cortex_-M.32-bit_XMC4000_Industrial_Microcontrollers_ARM__Cortex_-M4.DATASHEET.xmc4400_ds_v0.6_2012_11_.pdf
footprint INF-PG-LQFP-100-11-7000X7000TP_N (QFP, 100-Leads, Body 14x14mm, Pitch 0.5mm, Thermal Pad 7x7mm, IPC Medium Density)
footprint INF-PG-LQFP-100-11-7000X7000TP_L (QFP, 100-Leads, Body 14x14mm, Pitch 0.5mm, Thermal Pad 7x7mm, IPC High Density)
footprint INF-PG-LQFP-100-11-7000X7000TP_M (QFP, 100-Leads, Body 14x14mm, Pitch 0.5mm, Thermal Pad 7x7mm, IPC Low Density)
part A pins: 1 P0.1 (io), 2 P0.0 (io), 3 P0.10 (io), 4 P0.9 (io), 5 P3.2 (io), 6 P3.1 (io), 7 P3.0 (io), 18 P15.3 (in), 19 P15.2 (in), 20 P14.15 (in), 21 P14.14 (in), 22 P14.13 (in), 23 P14.12 (in), 24 P14.7 (in), 25 P14.6 (in), 26 P14.5 (in), 27 P14.4 (in), 28 P14.3 (in), 29 P14.2 (in), 30 P14.1 (in), 31 P14.0 (in), 36 P14.9 (io), 37 P14.8 (io), 38 P15.9 (in), 39 P15.8 (in), 40 P2.15 (io), 41 P2.14 (io), 44 P2.10 (io), 45 P2.9 (io), 46 P2.8 (io), 47 P2.5 (io), 48 P2.4 (io), 49 P2.3 (io), 50 P2.2 (io), 51 P2.1 (io), 52 P2.0 (io), 53 P2.7 (io), 54 P2.6 (io), 55 P5.7 (io), 56 P5.2 (io), 57 P5.1 (io), 58 P5.0 (io), 68 P1.15 (io), 69 P1.14 (io), 70 P1.13 (io), 71 P1.12 (io), 72 P1.11 (io), 73 P1.10 (io), 74 P1.5 (io), 75 P1.4 (io), 76 P1.3 (io), 77 P1.2 (io), 78 P1.1 (io), 79 P1.0 (io), 80 P1.9 (io), 81 P1.8 (io), 82 P1.7 (io), 83 P1.6 (io), 84 P4.1 (io), 85 P4.0 (io), 88 P0.8 (io), 89 P0.7 (io), 90 P3.6 (io), 91 P3.5 (io), 92 P3.4 (io), 93 P3.3 (io), 94 P0.12 (io), 95 P0.11 (io), 96 P0.6 (io), 97 P0.5 (io), 98 P0.4 (io), 99 P0.3 (io), 100 P0.2 (io)
part B pins: 8 USB_DM (io), 9 USB_DP (io), 13 HIB_IO_1 (io), 14 HIB_IO_0 (io), 15 RTC_XTAL1, 16 RTC_XTAL2, 61 XTAL1, 62 XTAL2, 65 ~{PORST} (io) "Strong pull-down controlled by EVR. Weak pull-up active while strong pull-down is not active.", 66 TMS (io), 67 TCK (in)
part C pins: 10 VBUS (power), 11 VDDP (power), 12 VDDC (power), 17 VBAT (power) "When VDDP is supplied VBAT has to be supplied as well.", 32 VAGND (power), 33 VAREF (power), 34 VSSA (power), 35 VDDA (power), 42 VDDC (power), 43 VDDP (power), 59 VSS (power), 60 VDDP (power), 63 VSSO (power), 64 VDDC (power), 86 VDDC (power), 87 VDDP (power), 101 EP (power) "Exposed Die Pad"

## XMC4400-F100K256 AB
designator U?
120 MHz XMC4400 MCU with 256 KByte Program Memory, 80 KByte SRAM, 3.3 V, -40 to 125 degC, PG-LQFP-100, Green; Manufacturer: Infineon; PartNumber: XMC4400-F100K256 AB; A / D input lines (incl. FADC): 18; Digital I/O Lines: 55; Green: TRUE; Type of Memory: Flash; Type of Serial I/O Interfaces: 4xSPI, Dual SPI, Quad SPI, UART, LIN, IIC, IIS; DatasheetVersion: Rev. 0.6; PackageVersion: Rev. 11, 11/2012; PackageReference: PG-LQFP-100-11; PackageDescription: 100-Pin Plastic (Green) Low Profile Quad Flat Package, 14 x 14 mm Body, 0.5 mm Pitch; Group: XMC4400; Halogen-free: TRUE; Program Memory: 256 KByte; RoHS: TRUE; SRAM (incl. Cache): 80 KByte; Mounting Technology: Surface Mount; ComponentLink1Description: Manufacturer URL; ComponentLink1URL: http://www.infineon.com/; ComponentLink2Description: Datasheet; ComponentLink2URL: http://www.infineon.com/dgdl/xmc4400_ds_v0.6_2012_11_.pdf?folderId=db3a30433580b3710135a47f3eb76c98&fileId=db3a30433afc7e3e013b3cfb455565a3&location=en.Products.Microcontrollers.32-bit_Industrial_Microcontrollers_based_on_ARM__Cortex_-M.32-bit_XMC4000_Industrial_Microcontrollers_ARM__Cortex_-M4.DATASHEET.xmc4400_ds_v0.6_2012_11_.pdf; ComponentLink3Description: Package Specification; ComponentLink3URL: http://www.infineon.com/dgdl/xmc4400_ds_v0.6_2012_11_.pdf?folderId=db3a30433580b3710135a47f3eb76c98&fileId=db3a30433afc7e3e013b3cfb455565a3&location=en.Products.Microcontrollers.32-bit_Industrial_Microcontrollers_based_on_ARM__Cortex_-M.32-bit_XMC4000_Industrial_Microcontrollers_ARM__Cortex_-M4.DATASHEET.xmc4400_ds_v0.6_2012_11_.pdf
footprint INF-PG-LQFP-100-11-7000X7000TP_N (QFP, 100-Leads, Body 14x14mm, Pitch 0.5mm, Thermal Pad 7x7mm, IPC Medium Density)
footprint INF-PG-LQFP-100-11-7000X7000TP_L (QFP, 100-Leads, Body 14x14mm, Pitch 0.5mm, Thermal Pad 7x7mm, IPC High Density)
footprint INF-PG-LQFP-100-11-7000X7000TP_M (QFP, 100-Leads, Body 14x14mm, Pitch 0.5mm, Thermal Pad 7x7mm, IPC Low Density)
part A pins: 1 P0.1 (io), 2 P0.0 (io), 3 P0.10 (io), 4 P0.9 (io), 5 P3.2 (io), 6 P3.1 (io), 7 P3.0 (io), 18 P15.3 (in), 19 P15.2 (in), 20 P14.15 (in), 21 P14.14 (in), 22 P14.13 (in), 23 P14.12 (in), 24 P14.7 (in), 25 P14.6 (in), 26 P14.5 (in), 27 P14.4 (in), 28 P14.3 (in), 29 P14.2 (in), 30 P14.1 (in), 31 P14.0 (in), 36 P14.9 (io), 37 P14.8 (io), 38 P15.9 (in), 39 P15.8 (in), 40 P2.15 (io), 41 P2.14 (io), 44 P2.10 (io), 45 P2.9 (io), 46 P2.8 (io), 47 P2.5 (io), 48 P2.4 (io), 49 P2.3 (io), 50 P2.2 (io), 51 P2.1 (io), 52 P2.0 (io), 53 P2.7 (io), 54 P2.6 (io), 55 P5.7 (io), 56 P5.2 (io), 57 P5.1 (io), 58 P5.0 (io), 68 P1.15 (io), 69 P1.14 (io), 70 P1.13 (io), 71 P1.12 (io), 72 P1.11 (io), 73 P1.10 (io), 74 P1.5 (io), 75 P1.4 (io), 76 P1.3 (io), 77 P1.2 (io), 78 P1.1 (io), 79 P1.0 (io), 80 P1.9 (io), 81 P1.8 (io), 82 P1.7 (io), 83 P1.6 (io), 84 P4.1 (io), 85 P4.0 (io), 88 P0.8 (io), 89 P0.7 (io), 90 P3.6 (io), 91 P3.5 (io), 92 P3.4 (io), 93 P3.3 (io), 94 P0.12 (io), 95 P0.11 (io), 96 P0.6 (io), 97 P0.5 (io), 98 P0.4 (io), 99 P0.3 (io), 100 P0.2 (io)
part B pins: 8 USB_DM (io), 9 USB_DP (io), 13 HIB_IO_1 (io), 14 HIB_IO_0 (io), 15 RTC_XTAL1, 16 RTC_XTAL2, 61 XTAL1, 62 XTAL2, 65 ~{PORST} (io) "Strong pull-down controlled by EVR. Weak pull-up active while strong pull-down is not active.", 66 TMS (io), 67 TCK (in)
part C pins: 10 VBUS (power), 11 VDDP (power), 12 VDDC (power), 17 VBAT (power) "When VDDP is supplied VBAT has to be supplied as well.", 32 VAGND (power), 33 VAREF (power), 34 VSSA (power), 35 VDDA (power), 42 VDDC (power), 43 VDDP (power), 59 VSS (power), 60 VDDP (power), 63 VSSO (power), 64 VDDC (power), 86 VDDC (power), 87 VDDP (power), 101 EP (power) "Exposed Die Pad"

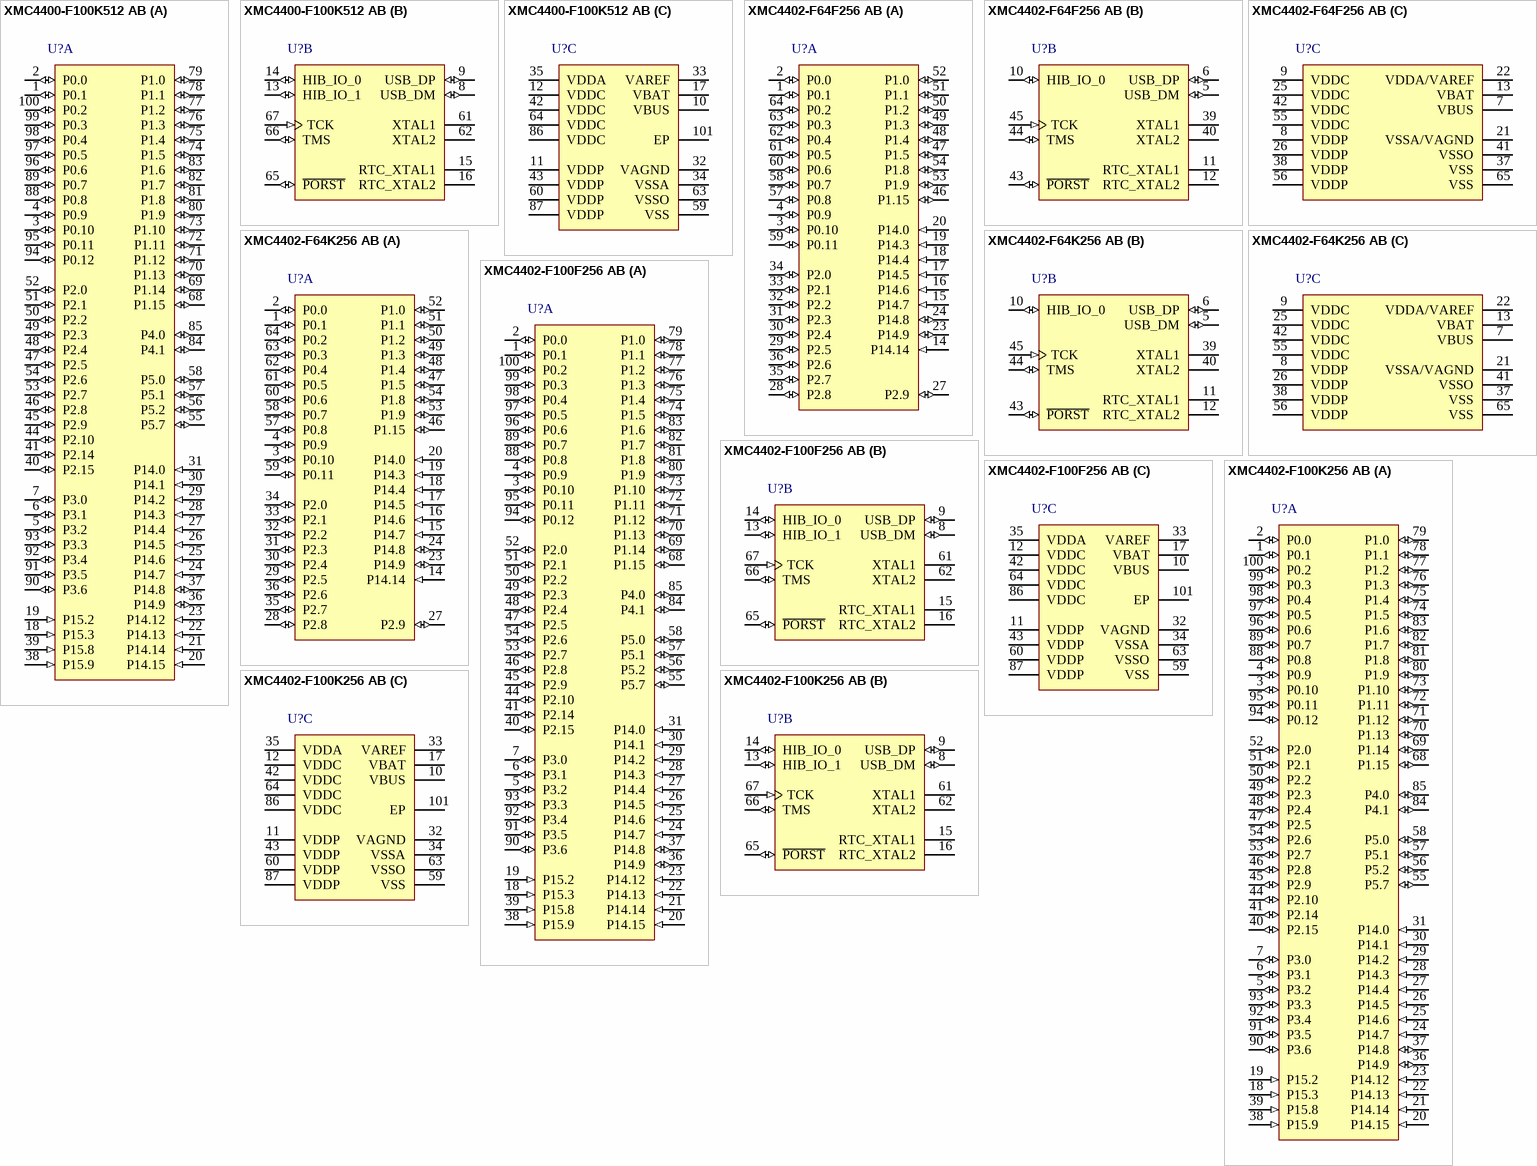
[diagram p112: symbols XMC4400-F100K512 AB to XMC4402-F100K256 AB]

## XMC4400-F100K512 AB
designator U?
120 MHz XMC4400 MCU with 512 KByte Program Memory, 80 KByte SRAM, 3.3 V, -40 to 125 degC, PG-LQFP-100, Green; Manufacturer: Infineon; PartNumber: XMC4400-F100K512 AB; A / D input lines (incl. FADC): 18; Digital I/O Lines: 55; Green: TRUE; Type of Memory: Flash; Type of Serial I/O Interfaces: 4xSPI, Dual SPI, Quad SPI, UART, LIN, IIC, IIS; DatasheetVersion: Rev. 0.6; PackageVersion: Rev. 11, 11/2012; PackageReference: PG-LQFP-100-11; PackageDescription: 100-Pin Plastic (Green) Low Profile Quad Flat Package, 14 x 14 mm Body, 0.5 mm Pitch; Supplier 1: Newark; Supplier Part Number 1: 52X6572; Supplier 2: Farnell; Supplier Part Number 2: 2418735; Group: XMC4400; Halogen-free: TRUE; Program Memory: 512 KByte; RoHS: TRUE; SRAM (incl. Cache): 80 KByte; Mounting Technology: Surface Mount; ComponentLink1Description: Manufacturer URL; ComponentLink1URL: http://www.infineon.com/; ComponentLink2Description: Datasheet; ComponentLink2URL: http://www.infineon.com/dgdl/xmc4400_ds_v0.6_2012_11_.pdf?folderId=db3a30433580b3710135a47f3eb76c98&fileId=db3a30433afc7e3e013b3cfb455565a3&location=en.Products.Microcontrollers.32-bit_Industrial_Microcontrollers_based_on_ARM__Cortex_-M.32-bit_XMC4000_Industrial_Microcontrollers_ARM__Cortex_-M4.DATASHEET.xmc4400_ds_v0.6_2012_11_.pdf; ComponentLink3Description: Package Specification; ComponentLink3URL: http://www.infineon.com/dgdl/xmc4400_ds_v0.6_2012_11_.pdf?folderId=db3a30433580b3710135a47f3eb76c98&fileId=db3a30433afc7e3e013b3cfb455565a3&location=en.Products.Microcontrollers.32-bit_Industrial_Microcontrollers_based_on_ARM__Cortex_-M.32-bit_XMC4000_Industrial_Microcontrollers_ARM__Cortex_-M4.DATASHEET.xmc4400_ds_v0.6_2012_11_.pdf
footprint INF-PG-LQFP-100-11-7000X7000TP_N (QFP, 100-Leads, Body 14x14mm, Pitch 0.5mm, Thermal Pad 7x7mm, IPC Medium Density)
footprint INF-PG-LQFP-100-11-7000X7000TP_L (QFP, 100-Leads, Body 14x14mm, Pitch 0.5mm, Thermal Pad 7x7mm, IPC High Density)
footprint INF-PG-LQFP-100-11-7000X7000TP_M (QFP, 100-Leads, Body 14x14mm, Pitch 0.5mm, Thermal Pad 7x7mm, IPC Low Density)
part A pins: 1 P0.1 (io), 2 P0.0 (io), 3 P0.10 (io), 4 P0.9 (io), 5 P3.2 (io), 6 P3.1 (io), 7 P3.0 (io), 18 P15.3 (in), 19 P15.2 (in), 20 P14.15 (in), 21 P14.14 (in), 22 P14.13 (in), 23 P14.12 (in), 24 P14.7 (in), 25 P14.6 (in), 26 P14.5 (in), 27 P14.4 (in), 28 P14.3 (in), 29 P14.2 (in), 30 P14.1 (in), 31 P14.0 (in), 36 P14.9 (io), 37 P14.8 (io), 38 P15.9 (in), 39 P15.8 (in), 40 P2.15 (io), 41 P2.14 (io), 44 P2.10 (io), 45 P2.9 (io), 46 P2.8 (io), 47 P2.5 (io), 48 P2.4 (io), 49 P2.3 (io), 50 P2.2 (io), 51 P2.1 (io), 52 P2.0 (io), 53 P2.7 (io), 54 P2.6 (io), 55 P5.7 (io), 56 P5.2 (io), 57 P5.1 (io), 58 P5.0 (io), 68 P1.15 (io), 69 P1.14 (io), 70 P1.13 (io), 71 P1.12 (io), 72 P1.11 (io), 73 P1.10 (io), 74 P1.5 (io), 75 P1.4 (io), 76 P1.3 (io), 77 P1.2 (io), 78 P1.1 (io), 79 P1.0 (io), 80 P1.9 (io), 81 P1.8 (io), 82 P1.7 (io), 83 P1.6 (io), 84 P4.1 (io), 85 P4.0 (io), 88 P0.8 (io), 89 P0.7 (io), 90 P3.6 (io), 91 P3.5 (io), 92 P3.4 (io), 93 P3.3 (io), 94 P0.12 (io), 95 P0.11 (io), 96 P0.6 (io), 97 P0.5 (io), 98 P0.4 (io), 99 P0.3 (io), 100 P0.2 (io)
part B pins: 8 USB_DM (io), 9 USB_DP (io), 13 HIB_IO_1 (io), 14 HIB_IO_0 (io), 15 RTC_XTAL1, 16 RTC_XTAL2, 61 XTAL1, 62 XTAL2, 65 ~{PORST} (io) "Strong pull-down controlled by EVR. Weak pull-up active while strong pull-down is not active.", 66 TMS (io), 67 TCK (in)
part C pins: 10 VBUS (power), 11 VDDP (power), 12 VDDC (power), 17 VBAT (power) "When VDDP is supplied VBAT has to be supplied as well.", 32 VAGND (power), 33 VAREF (power), 34 VSSA (power), 35 VDDA (power), 42 VDDC (power), 43 VDDP (power), 59 VSS (power), 60 VDDP (power), 63 VSSO (power), 64 VDDC (power), 86 VDDC (power), 87 VDDP (power), 101 EP (power) "Exposed Die Pad"

## XMC4402-F64F256 AB
designator U?
120 MHz XMC4400 MCU with 256 KByte Program Memory, 80 KByte SRAM, 3.3 V, -40 to 85 degC, PG-LQFP-64, Green; Manufacturer: Infineon; PartNumber: XMC4402-F64F256 AB; A / D input lines (incl. FADC): 9; Digital I/O Lines: 31; Green: TRUE; Type of Memory: Flash; Type of Serial I/O Interfaces: 4xSPI, Dual SPI, Quad SPI, UART, LIN, IIC, IIS; DatasheetVersion: Rev. 0.6; PackageVersion: Rev. 13, 11/2012; PackageReference: PG-LQFP-64-19; PackageDescription: 64-Pin Plastic (Green) Low Profile Quad Flat Package, 10 x 10 mm Body, 0.5 mm Pitch; Group: XMC4400; Halogen-free: TRUE; Program Memory: 256 KByte; RoHS: TRUE; SRAM (incl. Cache): 80 KByte; Mounting Technology: Surface Mount; ComponentLink1Description: Manufacturer URL; ComponentLink1URL: http://www.infineon.com/; ComponentLink2Description: Datasheet; ComponentLink2URL: http://www.infineon.com/dgdl/xmc4400_ds_v0.6_2012_11_.pdf?folderId=db3a30433580b3710135a47f3eb76c98&fileId=db3a30433afc7e3e013b3cfb455565a3&location=en.Products.Microcontrollers.32-bit_Industrial_Microcontrollers_based_on_ARM__Cortex_-M.32-bit_XMC4000_Industrial_Microcontrollers_ARM__Cortex_-M4.DATASHEET.xmc4400_ds_v0.6_2012_11_.pdf; ComponentLink3Description: Package Specification; ComponentLink3URL: http://www.infineon.com/dgdl/xmc4100_xmc4200_ds_v0.6_2012_11.pdf?folderId=db3a30433580b3710135a47f3eb76c98&fileId=db3a30433afc7e3e013b3cf9b2816573&location=en.Products.Microcontrollers.32-bit_Industrial_Microcontrollers_based_on_ARM__Cortex_-M.32-bit_XMC4000_Industrial_Microcontrollers_ARM__Cortex_-M4.DATASHEET.xmc4100_xmc4200_ds_v0.6_2012_11.pdf
footprint INF-PG-LQFP-64-19-5800X5800TP_N (QFP, 64-Leads, Body 10x10mm, Pitch 0.5mm, Thermal Pad 5.8x5.8mm, IPC Medium Density)
footprint INF-PG-LQFP-64-19-5800X5800TP_L (QFP, 64-Leads, Body 10x10mm, Pitch 0.5mm, Thermal Pad 5.8x5.8mm, IPC High Density)
footprint INF-PG-LQFP-64-19-5800X5800TP_M (QFP, 64-Leads, Body 10x10mm, Pitch 0.5mm, Thermal Pad 5.8x5.8mm, IPC Low Density)
part A pins: 1 P0.1 (io), 2 P0.0 (io), 3 P0.10 (io), 4 P0.9 (io), 14 P14.14 (in), 15 P14.7 (in), 16 P14.6 (in), 17 P14.5 (in), 18 P14.4 (in), 19 P14.3 (in), 20 P14.0 (in), 23 P14.9 (io), 24 P14.8 (io), 27 P2.9 (io), 28 P2.8 (io), 29 P2.5 (io), 30 P2.4 (io), 31 P2.3 (io), 32 P2.2 (io), 33 P2.1 (io), 34 P2.0 (io), 35 P2.7 (io), 36 P2.6 (io), 46 P1.15 (io), 47 P1.5 (io), 48 P1.4 (io), 49 P1.3 (io), 50 P1.2 (io), 51 P1.1 (io), 52 P1.0 (io), 53 P1.9 (io), 54 P1.8 (io), 57 P0.8 (io), 58 P0.7 (io), 59 P0.11 (io), 60 P0.6 (io), 61 P0.5 (io), 62 P0.4 (io), 63 P0.3 (io), 64 P0.2 (io)
part B pins: 5 USB_DM (io), 6 USB_DP (io), 10 HIB_IO_0 (io), 11 RTC_XTAL1, 12 RTC_XTAL2, 39 XTAL1, 40 XTAL2, 43 ~{PORST} (io) "Strong pull-down controlled by EVR. Weak pull-up active while strong pull-down is not active.", 44 TMS (io), 45 TCK (in)
part C pins: 7 VBUS (power), 8 VDDP (power), 9 VDDC (power), 13 VBAT (power) "When VDDP is supplied VBAT has to be supplied as well.", 21 VSSA/VAGND (power), 22 VDDA/VAREF (power), 25 VDDC (power), 26 VDDP (power), 37 VSS (power), 38 VDDP (power), 41 VSSO (power), 42 VDDC (power), 55 VDDC (power), 56 VDDP (power), 65 VSS (power) "Exposed Die Pad The exposed die pad is connected internally to VSS. For proper operation, it is mandatory to connect the exposed pad to the board ground. For thermal aspects, please refer to the Data Sheet. Board layout (See Datasheet)"

## XMC4402-F64K256 AB
designator U?
120 MHz XMC4400 MCU with 256 KByte Program Memory, 80 KByte SRAM, 3.3 V, -40 to 125 degC, PG-LQFP-64, Green; Manufacturer: Infineon; PartNumber: XMC4402-F64K256 AB; A / D input lines (incl. FADC): 9; Digital I/O Lines: 31; Green: TRUE; Type of Memory: Flash; Type of Serial I/O Interfaces: 4xSPI, Dual SPI, Quad SPI, UART, LIN, IIC, IIS; DatasheetVersion: Rev. 0.6; PackageVersion: Rev. 13, 11/2012; PackageReference: PG-LQFP-64-19; PackageDescription: 64-Pin Plastic (Green) Low Profile Quad Flat Package, 10 x 10 mm Body, 0.5 mm Pitch; Group: XMC4400; Halogen-free: TRUE; Program Memory: 256 KByte; RoHS: TRUE; SRAM (incl. Cache): 80 KByte; Mounting Technology: Surface Mount; ComponentLink1Description: Manufacturer URL; ComponentLink1URL: http://www.infineon.com/; ComponentLink2Description: Datasheet; ComponentLink2URL: http://www.infineon.com/dgdl/xmc4400_ds_v0.6_2012_11_.pdf?folderId=db3a30433580b3710135a47f3eb76c98&fileId=db3a30433afc7e3e013b3cfb455565a3&location=en.Products.Microcontrollers.32-bit_Industrial_Microcontrollers_based_on_ARM__Cortex_-M.32-bit_XMC4000_Industrial_Microcontrollers_ARM__Cortex_-M4.DATASHEET.xmc4400_ds_v0.6_2012_11_.pdf; ComponentLink3Description: Package Specification; ComponentLink3URL: http://www.infineon.com/dgdl/xmc4100_xmc4200_ds_v0.6_2012_11.pdf?folderId=db3a30433580b3710135a47f3eb76c98&fileId=db3a30433afc7e3e013b3cf9b2816573&location=en.Products.Microcontrollers.32-bit_Industrial_Microcontrollers_based_on_ARM__Cortex_-M.32-bit_XMC4000_Industrial_Microcontrollers_ARM__Cortex_-M4.DATASHEET.xmc4100_xmc4200_ds_v0.6_2012_11.pdf
footprint INF-PG-LQFP-64-19-5800X5800TP_N (QFP, 64-Leads, Body 10x10mm, Pitch 0.5mm, Thermal Pad 5.8x5.8mm, IPC Medium Density)
footprint INF-PG-LQFP-64-19-5800X5800TP_L (QFP, 64-Leads, Body 10x10mm, Pitch 0.5mm, Thermal Pad 5.8x5.8mm, IPC High Density)
footprint INF-PG-LQFP-64-19-5800X5800TP_M (QFP, 64-Leads, Body 10x10mm, Pitch 0.5mm, Thermal Pad 5.8x5.8mm, IPC Low Density)
part A pins: 1 P0.1 (io), 2 P0.0 (io), 3 P0.10 (io), 4 P0.9 (io), 14 P14.14 (in), 15 P14.7 (in), 16 P14.6 (in), 17 P14.5 (in), 18 P14.4 (in), 19 P14.3 (in), 20 P14.0 (in), 23 P14.9 (io), 24 P14.8 (io), 27 P2.9 (io), 28 P2.8 (io), 29 P2.5 (io), 30 P2.4 (io), 31 P2.3 (io), 32 P2.2 (io), 33 P2.1 (io), 34 P2.0 (io), 35 P2.7 (io), 36 P2.6 (io), 46 P1.15 (io), 47 P1.5 (io), 48 P1.4 (io), 49 P1.3 (io), 50 P1.2 (io), 51 P1.1 (io), 52 P1.0 (io), 53 P1.9 (io), 54 P1.8 (io), 57 P0.8 (io), 58 P0.7 (io), 59 P0.11 (io), 60 P0.6 (io), 61 P0.5 (io), 62 P0.4 (io), 63 P0.3 (io), 64 P0.2 (io)
part B pins: 5 USB_DM (io), 6 USB_DP (io), 10 HIB_IO_0 (io), 11 RTC_XTAL1, 12 RTC_XTAL2, 39 XTAL1, 40 XTAL2, 43 ~{PORST} (io) "Strong pull-down controlled by EVR. Weak pull-up active while strong pull-down is not active.", 44 TMS (io), 45 TCK (in)
part C pins: 7 VBUS (power), 8 VDDP (power), 9 VDDC (power), 13 VBAT (power) "When VDDP is supplied VBAT has to be supplied as well.", 21 VSSA/VAGND (power), 22 VDDA/VAREF (power), 25 VDDC (power), 26 VDDP (power), 37 VSS (power), 38 VDDP (power), 41 VSSO (power), 42 VDDC (power), 55 VDDC (power), 56 VDDP (power), 65 VSS (power) "Exposed Die Pad The exposed die pad is connected internally to VSS. For proper operation, it is mandatory to connect the exposed pad to the board ground. For thermal aspects, please refer to the Data Sheet. Board layout (See Datasheet)"

## XMC4402-F100F256 AB
designator U?
120 MHz XMC4400 MCU with 256 KByte Program Memory, 80 KByte SRAM, 3.3 V, -40 to 85 degC, PG-LQFP-100, Green; Manufacturer: Infineon; PartNumber: XMC4402-F100F256 AB; A / D input lines (incl. FADC): 18; Digital I/O Lines: 55; Green: TRUE; Type of Memory: Flash; Type of Serial I/O Interfaces: 4xSPI, Dual SPI, Quad SPI, UART, LIN, IIC, IIS; DatasheetVersion: Rev. 0.6; PackageVersion: Rev. 11, 11/2012; PackageReference: PG-LQFP-100-11; PackageDescription: 100-Pin Plastic (Green) Low Profile Quad Flat Package, 14 x 14 mm Body, 0.5 mm Pitch; Group: XMC4400; Halogen-free: TRUE; Program Memory: 256 KByte; RoHS: TRUE; SRAM (incl. Cache): 80 KByte; Mounting Technology: Surface Mount; ComponentLink1Description: Manufacturer URL; ComponentLink1URL: http://www.infineon.com/; ComponentLink2Description: Datasheet; ComponentLink2URL: http://www.infineon.com/dgdl/xmc4400_ds_v0.6_2012_11_.pdf?folderId=db3a30433580b3710135a47f3eb76c98&fileId=db3a30433afc7e3e013b3cfb455565a3&location=en.Products.Microcontrollers.32-bit_Industrial_Microcontrollers_based_on_ARM__Cortex_-M.32-bit_XMC4000_Industrial_Microcontrollers_ARM__Cortex_-M4.DATASHEET.xmc4400_ds_v0.6_2012_11_.pdf; ComponentLink3Description: Package Specification; ComponentLink3URL: http://www.infineon.com/dgdl/xmc4400_ds_v0.6_2012_11_.pdf?folderId=db3a30433580b3710135a47f3eb76c98&fileId=db3a30433afc7e3e013b3cfb455565a3&location=en.Products.Microcontrollers.32-bit_Industrial_Microcontrollers_based_on_ARM__Cortex_-M.32-bit_XMC4000_Industrial_Microcontrollers_ARM__Cortex_-M4.DATASHEET.xmc4400_ds_v0.6_2012_11_.pdf
footprint INF-PG-LQFP-100-11-7000X7000TP_N (QFP, 100-Leads, Body 14x14mm, Pitch 0.5mm, Thermal Pad 7x7mm, IPC Medium Density)
footprint INF-PG-LQFP-100-11-7000X7000TP_L (QFP, 100-Leads, Body 14x14mm, Pitch 0.5mm, Thermal Pad 7x7mm, IPC High Density)
footprint INF-PG-LQFP-100-11-7000X7000TP_M (QFP, 100-Leads, Body 14x14mm, Pitch 0.5mm, Thermal Pad 7x7mm, IPC Low Density)
part A pins: 1 P0.1 (io), 2 P0.0 (io), 3 P0.10 (io), 4 P0.9 (io), 5 P3.2 (io), 6 P3.1 (io), 7 P3.0 (io), 18 P15.3 (in), 19 P15.2 (in), 20 P14.15 (in), 21 P14.14 (in), 22 P14.13 (in), 23 P14.12 (in), 24 P14.7 (in), 25 P14.6 (in), 26 P14.5 (in), 27 P14.4 (in), 28 P14.3 (in), 29 P14.2 (in), 30 P14.1 (in), 31 P14.0 (in), 36 P14.9 (io), 37 P14.8 (io), 38 P15.9 (in), 39 P15.8 (in), 40 P2.15 (io), 41 P2.14 (io), 44 P2.10 (io), 45 P2.9 (io), 46 P2.8 (io), 47 P2.5 (io), 48 P2.4 (io), 49 P2.3 (io), 50 P2.2 (io), 51 P2.1 (io), 52 P2.0 (io), 53 P2.7 (io), 54 P2.6 (io), 55 P5.7 (io), 56 P5.2 (io), 57 P5.1 (io), 58 P5.0 (io), 68 P1.15 (io), 69 P1.14 (io), 70 P1.13 (io), 71 P1.12 (io), 72 P1.11 (io), 73 P1.10 (io), 74 P1.5 (io), 75 P1.4 (io), 76 P1.3 (io), 77 P1.2 (io), 78 P1.1 (io), 79 P1.0 (io), 80 P1.9 (io), 81 P1.8 (io), 82 P1.7 (io), 83 P1.6 (io), 84 P4.1 (io), 85 P4.0 (io), 88 P0.8 (io), 89 P0.7 (io), 90 P3.6 (io), 91 P3.5 (io), 92 P3.4 (io), 93 P3.3 (io), 94 P0.12 (io), 95 P0.11 (io), 96 P0.6 (io), 97 P0.5 (io), 98 P0.4 (io), 99 P0.3 (io), 100 P0.2 (io)
part B pins: 8 USB_DM (io), 9 USB_DP (io), 13 HIB_IO_1 (io), 14 HIB_IO_0 (io), 15 RTC_XTAL1, 16 RTC_XTAL2, 61 XTAL1, 62 XTAL2, 65 ~{PORST} (io) "Strong pull-down controlled by EVR. Weak pull-up active while strong pull-down is not active.", 66 TMS (io), 67 TCK (in)
part C pins: 10 VBUS (power), 11 VDDP (power), 12 VDDC (power), 17 VBAT (power) "When VDDP is supplied VBAT has to be supplied as well.", 32 VAGND (power), 33 VAREF (power), 34 VSSA (power), 35 VDDA (power), 42 VDDC (power), 43 VDDP (power), 59 VSS (power), 60 VDDP (power), 63 VSSO (power), 64 VDDC (power), 86 VDDC (power), 87 VDDP (power), 101 EP (power) "Exposed Die Pad"